# EAGLE library part RESNET08 (library monome)
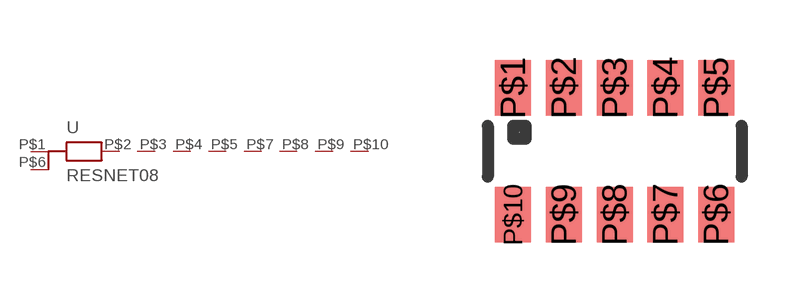
[diagram p23: symbol with the pads of MNR35; footprint MNR35]

Designator prefix -

## RESNET08  [MNR35]
P$1  1  pas
P$2  2  pas
P$3  3  pas
P$4  4  pas
P$5  5  pas
P$6  10  pas
P$7  6  pas
P$8  7  pas
P$9  8  pas
P$10  9  pas

## Footprint MNR35 (pad centres in mm)
smd 0.9 x 1.4: P$1 -2.54,1.587; P$2 -1.27,1.587; P$3 0,1.587; P$4 1.27,1.587; P$5 2.54,1.587; P$6 2.54,-1.587; P$7 1.27,-1.587; P$8 0,-1.587; P$9 -1.27,-1.587; P$10 -2.54,-1.587